# EAGLE library part LSM6DS3 (library glowb)
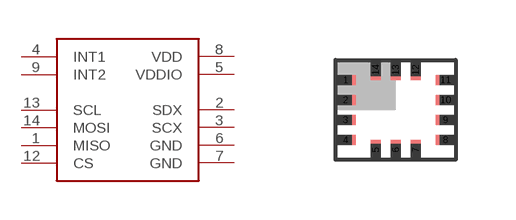
[diagram p0: symbol with the pads of LSM6DS3; footprint LSM6DS3]

Designator prefix -

## LSM6DS3  [LSM6DS3]
1  MISO
2  SDX
3  SCX
4  INT1
5  VDDIO
6  GND
7  GND
8  VDD
9  INT2
12  CS
13  SCL
14  MOSI

## Footprint LSM6DS3 (pad centres in mm)
smd 0.5 x 0.25: 1 -1.25,0.75; 2 -1.25,0.25; 3 -1.25,-0.25; 4 -1.25,-0.75; 8 1.25,-0.75; 9 1.25,-0.25; 10 1.25,0.25; 11 1.25,0.75
smd 0.25 x 0.5: 5 -0.5,-1; 6 0,-1; 7 0.5,-1; 12 0.5,1; 13 0,1; 14 -0.5,1